# EAGLE library part B6B-XH-A_LF__SN_ (library B6B-XH-A_LF__SN_)
CONN HEADER VERT 6POS 2.5MM Source: Datasheet <https://datasheet.lcsc.com/szlcsc/JST-Sales-America-B6B-XH-A-LF-SN_C144397.pdf>
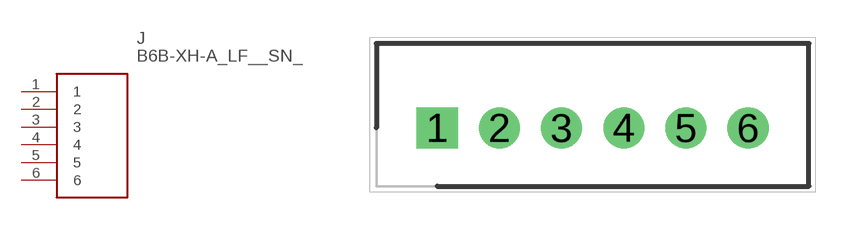
[diagram p0: symbol with the pads of SHDR6W64P0X250_1X6_1740X575X70; footprint SHDR6W64P0X250_1X6_1740X575X70]

Designator prefix J

## B6B-XH-A_LF__SN_ (Description: CONN HEADER VERT 6POS 2.5MM; Height: 7mm; Manufacturer_Name: JST (JAPAN SOLDERLESS TERMINALS); Manufacturer_Part_Number: B6B-XH-A(LF)(SN); Mouser_Part_Number: 306-B6BXHALFSN; Mouser_Price-Stock: https://www.mouser.co.uk/ProductDetail/JST-Commercial/B6B-XH-ALFSN?qs=cdbOS8ANM9AKmMmofXbwlw%3D%3D)  [SHDR6W64P0X250_1X6_1740X575X70]
1  1
2  2
3  3
4  4
5  5
6  6

## Footprint SHDR6W64P0X250_1X6_1740X575X70 (pad centres in mm)
B6B-XH-A(LF)(SN)
drill 1.1 pad 1.65 square: 1 0,0
drill 1.1 pad 1.65: 2 2.5,0; 3 5,0; 4 7.5,0; 5 10,0; 6 12.5,0